# Altium schematic symbol library IRLML6344TRPBF.SchLib: 1 symbol
Pins are listed as number, name and electrical type; pins without a type are passive.

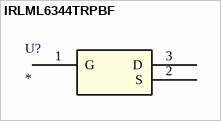
[diagram p0: symbol IRLML6344TRPBF]

## IRLML6344TRPBF
designator U?
No Description Available; Mfr_Name: Infineon; RefDes: RefDes; Type: Type
footprint IRLML6344TRPBF_INF
pins: 1 G, 2 S, 3 D